# Altium schematic symbol library Schlib.SchLib: 166 symbols (part 1 of 4)
Pins are listed as number, name and electrical type; pins without a type are passive.

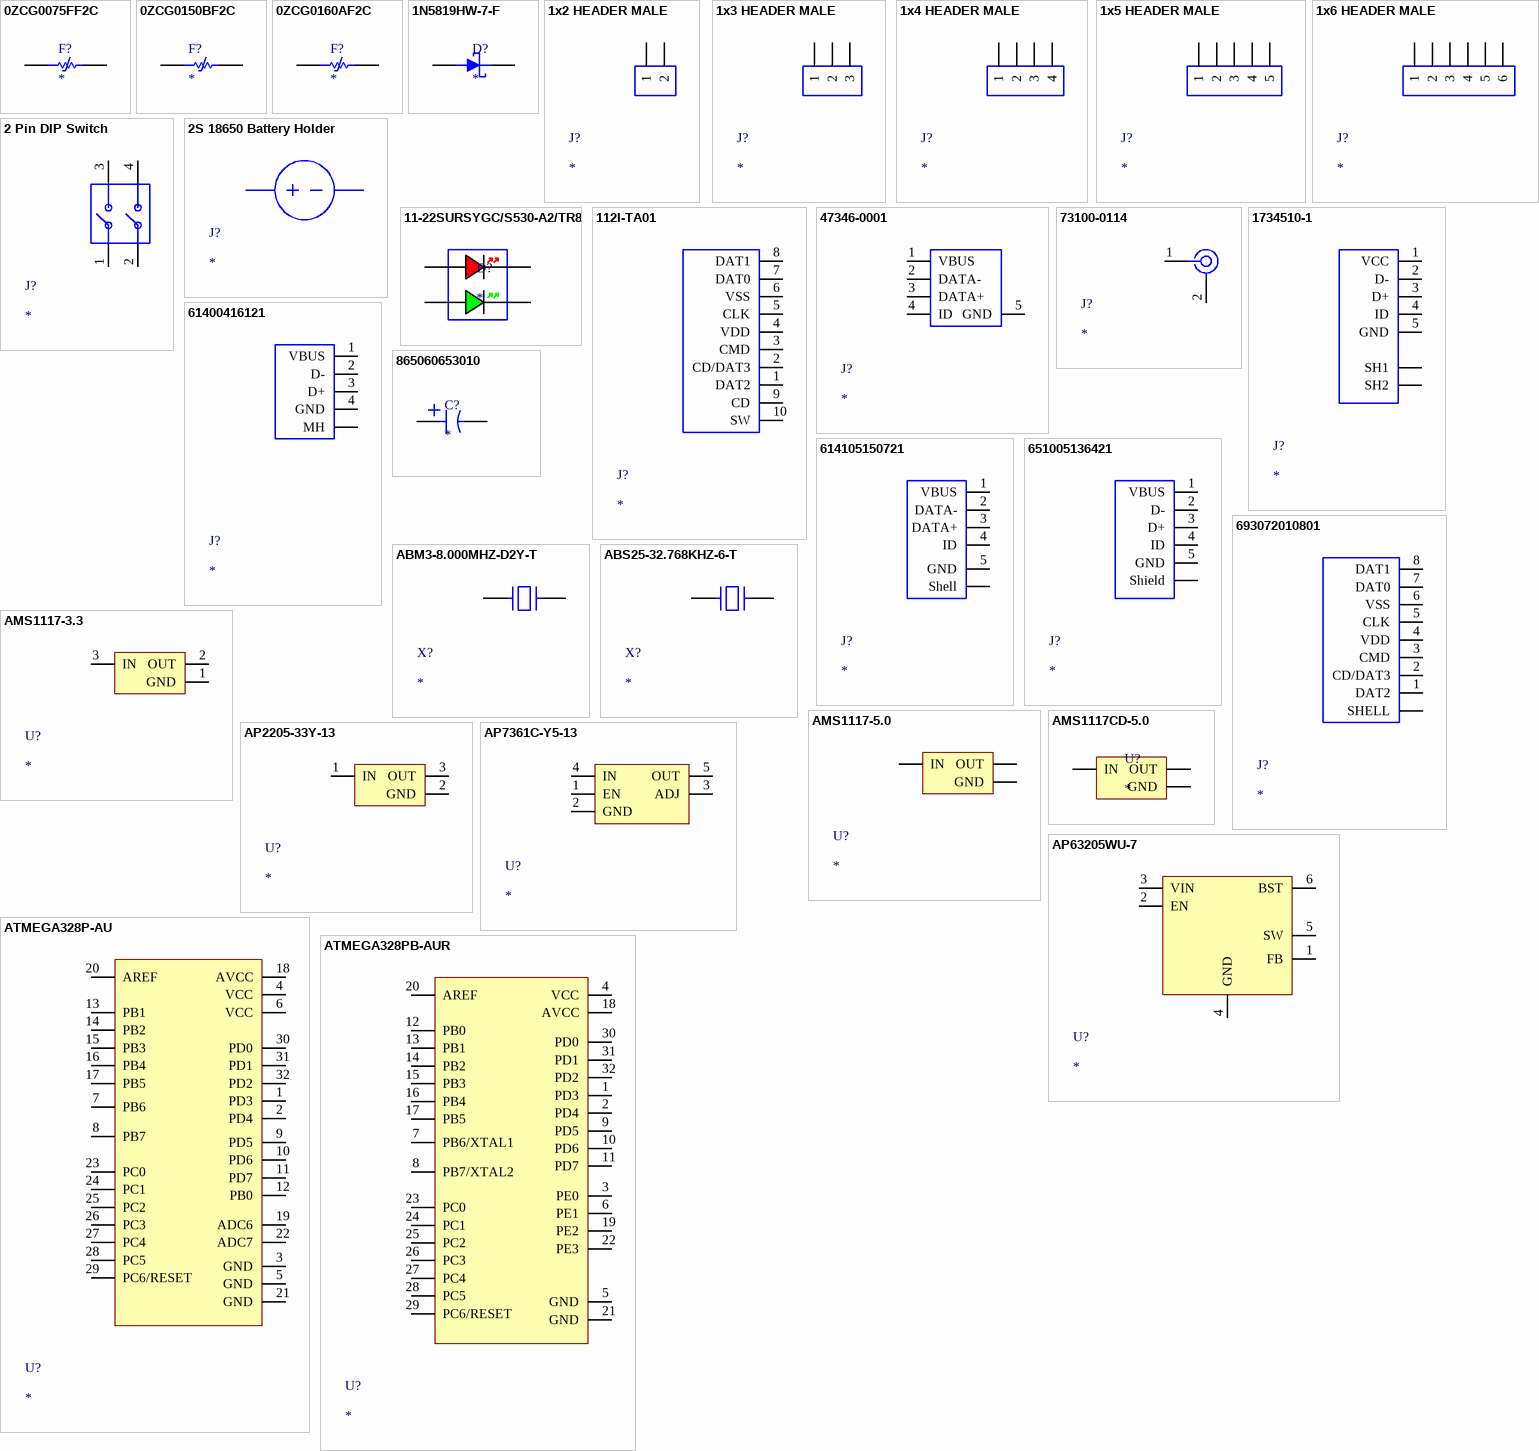
[diagram p0: symbols 0ZCG0075FF2C to ATMEGA328PB-AUR]

## 0ZCG0075FF2C
designator F?
PTC Resettable Fuse 0.75A(hold) 1.5A(trip) 16VDC 100A 0.8W 0.2s 0.11Ohm SMD Solder Pad 1812 4.73 X 3.41 X 0.65mm T/R...; Manufacturer: Bel; Manufacturer Part Number: 0ZCG0075FF2C; Hold Current: 750mA; Time to Trip: 200ms; Supplier 1: Arrow Electronics; RoHS: Yes; Category: PTC Resettable Fuses; Stock 1: 4661; Pricing 1: 2000=0,0751, 4000=0,0699, 6000=0,065, 10000=0,0604 (USD); Mount: Surface Mount; Case/Package: 1812; Case Code (Metric): 4532; Case Code (Imperial): 1812; Contact Plating: Tin,Matte; Min Operating Temperature: -40°C; Max Operating Temperature: 85°C; Packaging: Cut Tape; Max Current Rating: 100A; Trip Current: 1.5A; Series: 0ZCG; Lead Free: Lead Free; RoHS Compliant: Yes; ComponentLink1URL: https://datasheet.ciiva.com/18550/0zcg-18550523.pdf?src-supplier=Digi-Key; ComponentLink1Description: https://datasheet.ciiva.com/18550/0zcg-18550523.pdf?src-supplier=Digi-Key; ComponentLink2URL: https://datasheet.ciiva.com/18550/0zcg-18550524.pdf?src-supplier=Digi-Key; ComponentLink2Description: https://datasheet.ciiva.com/18550/0zcg-18550524.pdf?src-supplier=Digi-Key; ComponentLink3URL: https://datasheet.ciiva.com/18550/0zcg-18550767.pdf?src-supplier=Digi-Key; ComponentLink3Description: https://datasheet.ciiva.com/18550/0zcg-18550767.pdf?src-supplier=Digi-Key
footprint 1812
pins: 1, 2

## 0ZCG0150BF2C
designator F?
PTC RESTTBLE 1.50A 24V CHIP 1812; Manufacturer: Bel; Manufacturer Part Number: 0ZCG0150BF2C; Current Rating: 100A; Supplier 1: Avnet; RoHS: Yes; Category: PTC Resettable Fuses; Stock 1: 20000; Pricing 1: 2000=0,10628, 4000=0,10217, 8000=0,09874, 12000=0,09531, 16000=0,09188, 20000=0,08846, 200000=0,06138 (USD); Voltage Rating: 24V; Height: 1.55mm; ComponentLink1URL: http://www.farnell.com/datasheets/2571640.pdf?src-supplier=Farnell; ComponentLink1Description: http://www.farnell.com/datasheets/2571640.pdf?src-supplier=Farnell; ComponentLink2URL: http://www.farnell.com/datasheets/2571640.pdf?src-supplier=Element14; ComponentLink2Description: http://www.farnell.com/datasheets/2571640.pdf?src-supplier=Element14; ComponentLink3URL: https://www.belfuse.com/resources/CircuitProtection/datasheets/0ZCG%20Nov2016.pdf?src-supplier=Digikey; ComponentLink3Description: https://www.belfuse.com/resources/CircuitProtection/datasheets/0ZCG%20Nov2016.pdf?src-supplier=Digikey; ComponentLink4URL: http://www.farnell.com/datasheets/2571640.pdf?src-supplier=Newark; ComponentLink4Description: http://www.farnell.com/datasheets/2571640.pdf?src-supplier=Newark; ComponentLink5URL: http://www.belfuse.com/pdfs/0ZCG.pdf?src-supplier=Avnet; ComponentLink5Description: http://www.belfuse.com/pdfs/0ZCG.pdf?src-supplier=Avnet; ComponentLink6URL: https://datasheet.octopart.com/0ZCG0150BF2C-Bel-Fuse-datasheet-138895723.pdf?src-supplier=Electro+Sonic; ComponentLink6Description: https://datasheet.octopart.com/0ZCG0150BF2C-Bel-Fuse-datasheet-138895723.pdf?src-supplier=Electro+Sonic
footprint 1812
pins: 1, 2

## 0ZCG0160AF2C
designator F?
Ptc Reset Fuse 12V 1.6A 1812; Manufacturer: Bel; Manufacturer Part Number: 0ZCG0160AF2C; Supplier 1: Mouser; RoHS: Yes; Category: PTC Resettable Fuses; Stock 1: 7947; Pricing 1: 1=0,24, 10=0,201, 50=0,201, 100=0,167, 1000=0,132, 10000=0,096 (USD); ComponentLink1URL: https://datasheet.ciiva.com/18550/0zcg-18550678.pdf?src-supplier=Digikey; ComponentLink1Description: https://datasheet.ciiva.com/18550/0zcg-18550678.pdf?src-supplier=Digikey; ComponentLink2URL: https://datasheet.ciiva.com/18550/0zcg-18550679.pdf?src-supplier=Digikey; ComponentLink2Description: https://datasheet.ciiva.com/18550/0zcg-18550679.pdf?src-supplier=Digikey; ComponentLink3URL: https://datasheet.ciiva.com/18550/0zcg-18550680.pdf?src-supplier=Digikey; ComponentLink3Description: https://datasheet.ciiva.com/18550/0zcg-18550680.pdf?src-supplier=Digikey
footprint 1812
pins: 1, 2

## 1N5819HW-7-F
designator D?
Rectifier Diode, Schottky, 1 Phase, 1 Element, 1A, 40V V(RRM), Silicon; Manufacturer: Diodes; Manufacturer Part Number: 1N5819HW-7-F; Max Reverse Current: 50uA; Peak Non-Repetitive Surge Current: 25A; Forward Voltage: 450mV; Max Power Dissipation: 450mW; Polarity: Standard; Capacitance: 50pF; Supplier 1: Future Electronics; RoHS: Yes; Category: Rectifier Diodes; Stock 1: 5079000; Pricing 1: 3000=0,0409, 9000=0,0394, 15000=0,0388, 60000=0,037, 90000=0,0358 (USD); Case/Package: SOD-123-2; Number of Pins: 2; Weight: 0.000353oz; Min Operating Temperature: -65°C; Max Operating Temperature: 125°C; Forward Current: 1A; Max Repetitive Reverse Voltage (Vrrm): 40V; Package Quantity: 3000; Packaging: Tape and Reel; Average Rectified Current: 1A; Max Forward Surge Current (Ifsm): 25A; Termination: SMD/SMT; Voltage Rating (DC): 40V; Current Rating: 1A; Output Current: 1A; Max Reverse Voltage (DC): 40V; Series: -; Reverse Voltage: 40V; Length: 2.85mm; Width: 1.7mm; Height: 1.25mm; Radiation Hardening: No; Reach SVHC Compliant: No; Lead Free: Lead Free; RoHS Compliant: Yes; ComponentLink1URL: https://datasheet.ciiva.com/27092/1538419-27092484.pdf?src-supplier=Jameco; ComponentLink1Description: https://datasheet.ciiva.com/27092/1538419-27092484.pdf?src-supplier=Jameco; ComponentLink2URL: https://datasheet.ciiva.com/16303/ds30217-16303296.pdf?src-supplier=Future+Electronics; ComponentLink2Description: https://datasheet.ciiva.com/16303/ds30217-16303296.pdf?src-supplier=Future+Electronics; ComponentLink3URL: https://datasheet.ciiva.com/1177/ds30217-1177089.pdf?src-supplier=Element14; ComponentLink3Description: https://datasheet.ciiva.com/1177/ds30217-1177089.pdf?src-supplier=Element14; ComponentLink4URL: https://datasheet.ciiva.com/8303/ds30217-8303132.pdf?src-supplier=Avnet; ComponentLink4Description: https://datasheet.ciiva.com/8303/ds30217-8303132.pdf?src-supplier=Avnet; ComponentLink5URL: https://datasheet.ciiva.com/912/ds30217-912802.pdf?src-supplier=Digikey; ComponentLink5Description: https://datasheet.ciiva.com/912/ds30217-912802.pdf?src-supplier=Digikey; ComponentLink6URL: https://datasheet.ciiva.com/912/ds30217-912803.pdf?src-supplier=Digikey; ComponentLink6Description: https://datasheet.ciiva.com/912/ds30217-912803.pdf?src-supplier=Digikey; ComponentLink7URL: https://datasheet.ciiva.com/912/ds30217-912801.pdf?src-supplier=Digikey; ComponentLink7Description: https://datasheet.ciiva.com/912/ds30217-912801.pdf?src-supplier=Digikey
footprint 1N5819HW-7-F
pins: A, C

## 1x2 HEADER MALE
designator J?
footprint 1x2 HEADER MALE
pins: 1, 2

## 1x3 HEADER MALE
designator J?
footprint 1X3 HEADER MALE
pins: 1, 2, 3

## 1x4 HEADER MALE
designator J?
footprint 1X4 HEADER MALE
pins: 1, 2, 3, 4

## 1x5 HEADER MALE
designator J?
footprint 1X5 HEADER MALE
pins: 1, 2, 3, 4, 5

## 1x6 HEADER MALE
designator J?
footprint 1X6 HEADER MALE
pins: 1, 2, 3, 4, 5, 6

## 2 Pin DIP Switch
designator J?
footprint 2 PIN DIP SWITCH
pins: 1, 2, 3, 4

## 2S 18650 Battery Holder
designator J?
footprint 2S 18650 Battery Pack

## 11-22SURSYGC/S530-A2/TR8
designator D?
Dual Color LED, Brilliant Red/brilliant Yellow Green, Water Clear, 1.5mm; Manufacturer: Everlight; Manufacturer Part Number: 11-22SURSYGC/S530-A2/TR8; Color: Green,Red,Yellow; Shape: Round; Forward Current: 25mA; Channels: 1; Viewing Angle: 60°; Supplier: Future Electronics; Supplier Part Number: 4067489; RoHS: Yes; Category: LEDs; Pricing: 2000=0,0652, 4000=0,0641, 8000=0,063, 10000=0,0627, 30000=0,0606 (USD); Mounting Technology: Surface Mount; Pins: 4; Min Operating Temperature: -40°C; Max Operating Temperature: 85°C; Lens Style: WATER CLEAR; Optoelectronic Device Type: DUAL COLOR LED; Packaging: Tape and Reel; Terminal Pitch: 2.7mm; Overall Height: 1.5mm; Size: 1.5mm; Reach SVHC Compliant: Yes; RoHS Compliant: Yes; ComponentLink1URL: https://datasheet.ciiva.com:443/pdfs/VipMasterIC/IC/EVER/EVER-S-A0007426054/EVER-S-A0007423494-1.pdf?src-supplier=IHS+Markit; ComponentLink1Description: https://datasheet.ciiva.com:443/pdfs/VipMasterIC/IC/EVER/EVER-S-A0007426054/EVER-S-A0007423494-1.pdf?src-supplier=IHS+Markit; ComponentLink2URL: https://datasheet.ciiva.com/4268/11-22sursygc-s530-a2-tr8-4268850.pdf?src-supplier=Arrow+Electronics; ComponentLink2Description: https://datasheet.ciiva.com/4268/11-22sursygc-s530-a2-tr8-4268850.pdf?src-supplier=Arrow+Electronics; ComponentLink3URL: https://datasheet.ciiva.com/12401/1122sursygcs530a2tr8-188371-12401700.pdf?src-supplier=Mouser; ComponentLink3Description: https://datasheet.ciiva.com/12401/1122sursygcs530a2tr8-188371-12401700.pdf?src-supplier=Mouser
footprint 11-22SURSYGC/S530-A2/TR8
pins: 1 YGK, 2 RedK, 3 RedA, 4 YGA

## 112I-TA01
designator J?
Micro SD Card Push-Pull 10P (8+2), Switch, Peg, SMD 112I-TA01
footprint 112I-TA01
pins: 1 DAT2, 2 CD/DAT3, 3 CMD, 4 VDD, 5 CLK, 6 VSS, 7 DAT0, 8 DAT1, 9 CD, 10 SW

## 47346-0001
designator J?
Micro-USB B Receptacle with Flange, Bottom Mount, Surface Mount, Lead-Free; Manufacturer: Molex; Manufacturer Part Number: 47346-0001; Max Voltage Rating (AC): 30V; Number of Ports: 1; Contact Resistance: 40mR; Current Rating: 1.8A; Gender: Female; Connector Type: USB,Receptacle; Number of Contacts: 5; Contact Current Rating: 1A; USB Standard: USB 2.0; Pitch: 0.65mm; Glow Wire Compliant: Non-compliant; Supplier 1: Sager Electronics; RoHS: Yes; Category: Headers and Wire Housings; Stock 1: 14156; Pricing 1: 14000=0,5225 (USD); Mount: Surface Mount; Contact Plating: Gold; Contact Material: Copper Alloy,Copper; Housing Material: Polymer; Color: Black; Min Operating Temperature: -20°C; Max Operating Temperature: 85°C; Packaging: Tape and Reel; Termination: SMD/SMT; Orientation: Right Angle; Voltage Rating (AC): 30V; Voltage Rating: 30V; Number of Circuits: 5; Number of Positions: 5; Number of Rows: 1; Series: 47346; RoHS Compliant: Yes; Halogen Free: Low Halogen; Lead Free: Lead Free; Flammability Rating: UL94 V-0; Reach SVHC Compliant: Unknown; ComponentLink1URL: https://datasheet.ciiva.com/30075/304740473460001-io-nectors-30075527.pdf?src-supplier=Onlinecomponents.com; ComponentLink1Description: https://datasheet.ciiva.com/30075/304740473460001-io-nectors-30075527.pdf?src-supplier=Onlinecomponents.com; ComponentLink2URL: https://datasheet.ciiva.com/22654/1630785-22654942.pdf?src-supplier=Element14; ComponentLink2Description: https://datasheet.ciiva.com/22654/1630785-22654942.pdf?src-supplier=Element14; ComponentLink3URL: https://datasheet.ciiva.com/16148/1700180473460001-io-nectors-16148917.pdf?src-supplier=Onlinecomponents.com; ComponentLink3Description: https://datasheet.ciiva.com/16148/1700180473460001-io-nectors-16148917.pdf?src-supplier=Onlinecomponents.com; ComponentLink4URL: https://datasheet.ciiva.com/16986/70266948-16986683.pdf?src-supplier=Allied+Electronics; ComponentLink4Description: https://datasheet.ciiva.com/16986/70266948-16986683.pdf?src-supplier=Allied+Electronics; ComponentLink5URL: https://datasheet.ciiva.com/28504/0473460001-io-connectors-28504587.pdf?src-supplier=Element14; ComponentLink5Description: https://datasheet.ciiva.com/28504/0473460001-io-connectors-28504587.pdf?src-supplier=Element14; ComponentLink6URL: https://datasheet.ciiva.com/46390/1681853-46390956.pdf?src-supplier=Element14; ComponentLink6Description: https://datasheet.ciiva.com/46390/1681853-46390956.pdf?src-supplier=Element14
footprint MOLEX_47346-0001
pins: 1 VBUS, 2 DATA-, 3 DATA+, 4 ID, 5 GND

## 73100-0114
designator J?
RF SMA Connector, 1 Contact(s), Female, Board Mount, Solder Terminal, Locking, Jack
footprint 731000114
pins: 1, 2

## 1734510-1
designator J?
USB Connector, 5 Contact(s), Female, Right Angle, Solder Terminal, Locking, Receptacle; Manufacturer: TE Connectivity AMP; Manufacturer Part Number: 1734510-1; Gender: 30Gender; RMS Current (Irms): 1A; Supplier 1: Avnet; RoHS: Yes; Category: Audio / Video Connectors; Stock 1: 14; Pricing 1: 1=1,75, 10=1,61, 25=1,98, 50=1,93, 100=1,88 (USD); Lead Free: 5697LeadFree; ComponentLink1URL: https://www.te.com/commerce/DocumentDelivery/DDEController?Action=srchrtrv&DocNm=1734510&DocType=Customer+Drawing&DocLang=English&src-supplier=Digikey; ComponentLink1Description: https://www.te.com/commerce/DocumentDelivery/DDEController?Action=srchrtrv&DocNm=1734510&DocType=Customer+Drawing&DocLang=English&src-supplier=Digikey; ComponentLink2URL: https://datasheet.octopart.com/1734510-1-TE-Connectivity---AMP-datasheet-77862044.pdf?src-supplier=Sager+Electronics; ComponentLink2Description: https://datasheet.octopart.com/1734510-1-TE-Connectivity---AMP-datasheet-77862044.pdf?src-supplier=Sager+Electronics
footprint 1734510-1
pins: 1 VCC, 2 D-, 3 D+, 4 ID, 5 GND, SH1, SH2

## 61400416121
designator J?
USB Connector, 4 Contact(s), Female, Right Angle, Solder Terminal, Locking, Receptacle; Manufacturer: Wurth Electronics; Manufacturer Part Number: 61400416121; Connector Type: TELECOM AND DATACOM CONNECTOR; Option: General Purpose; Contact Resistance: 20mR; Durability: 1500Cycles; Empty Shell: No; Number Of Connectors: 1; Number Of PCB Rows: 2; PCB Contact Pattern: RECTANGULAR; Polarization Key: POLARIZED HOUSING; Number of Contacts: 4; Additional Feature: ROHS COMPLIANT; Board Mounting Option: SOLDERABLE RETENTION CLIPS; Dielectric Withstanding Voltage (AC): 750V; Insulation Resistance: 1GR; Rated Current (Signal): 1.5A; Body Depth: 0.65inch; Body Length: 0.472inch; Body Breadth: 0.421inch; PCB Contact Row Spacing: 2.0066mm; Reference Standard: UL; Reliability: COMMERCIAL; Supplier: Mouser; Supplier Part Number: 710-61400416121; RoHS: Yes; Category: USB Connectors; Stock: 3231; Pricing: 1=1,41, 10=1,24, 50=1,17, 100=1,05, 1000=1,01, 10000=1,01 (USD); Mounting Technology: Board; Contact Finish - Mating: GOLD; Contact Finish - Termination: Gold (Au); Insulation Material: Polybutylene; Shell Finish: Nickel; Shell Material: Bronze; Contact Material: Copper Alloy; Min Operating Temperature: -40°C; Max Operating Temperature: 105°C; JESD-609 Code: e4; Body/Shell Style: RECEPTACLE; Contact Gender: Female; Contact Style: USB; Filter Feature: No; Mixed Contacts: No; Mounting Style: RIGHT ANGLE; Termination: Solder; Mating Information: NO; Mounting Option 1: LOCKING; Terminal Pitch: 2.4892mm; Terminal Length: 0.126inch; Flammability Rating: UL94 V-0; DIN Conformance: No; IEC Conformance: No; MIL Conformance: No; Reach SVHC Compliant: Yes; RoHS Compliant: Yes; ComponentLink1URL: https://datasheet.ciiva.com:443/pdfs/VipMasterIC/IC/MIDC/MIDC-S-A0004022663/MIDC-S-A0006489655-1.pdf?src-supplier=IHS+Markit; ComponentLink1Description: https://datasheet.ciiva.com:443/pdfs/VipMasterIC/IC/MIDC/MIDC-S-A0004022663/MIDC-S-A0006489655-1.pdf?src-supplier=IHS+Markit; ComponentLink2URL: https://datasheet.ciiva.com/1098/1697135-1098929.pdf?src-supplier=Element14; ComponentLink2Description: https://datasheet.ciiva.com/1098/1697135-1098929.pdf?src-supplier=Element14; ComponentLink3URL: https://datasheet.ciiva.com/1100/76589-1100560.pdf?src-supplier=Newark; ComponentLink3Description: https://datasheet.ciiva.com/1100/76589-1100560.pdf?src-supplier=Newark; ComponentLink4URL: https://datasheet.ciiva.com/4598/61400416121-69623-4598782.pdf?src-supplier=Mouser; ComponentLink4Description: https://datasheet.ciiva.com/4598/61400416121-69623-4598782.pdf?src-supplier=Mouser; ComponentLink5URL: https://datasheet.ciiva.com/851/61400416121-851771.pdf?src-supplier=Digikey; ComponentLink5Description: https://datasheet.ciiva.com/851/61400416121-851771.pdf?src-supplier=Digikey; ComponentLink6URL: https://datasheet.ciiva.com/11731/0900766b81023ab5-11731301.pdf?src-supplier=Rs; ComponentLink6Description: https://datasheet.ciiva.com/11731/0900766b81023ab5-11731301.pdf?src-supplier=Rs; ComponentLink7URL: https://datasheet.ciiva.com/14118/4257098-eng-datasheet-14118442.pdf?src-supplier=Distrelec; ComponentLink7Description: https://datasheet.ciiva.com/14118/4257098-eng-datasheet-14118442.pdf?src-supplier=Distrelec; ComponentLink8URL: https://datasheet.ciiva.com/48712/001088208-da-01-en-wr-com-usb-type-b-61400416121-48712662.pdf?src-supplier=Conrad; ComponentLink8Description: https://datasheet.ciiva.com/48712/001088208-da-01-en-wr-com-usb-type-b-61400416121-48712662.pdf?src-supplier=Conrad
footprint 61400416121
pins: 1 VBUS, 2 D-, 3 D+, 4 GND, Shell MH

## 614105150721
designator J?
USB Connector, 5 Contact(s), Female, Straight, Solder Terminal, Receptacle; Manufacturer: Wurth Electronics; Manufacturer Part Number: 614105150721; Connector Type: TELECOM AND DATACOM CONNECTOR; Option: General Purpose; Additional Feature: Shielded; Empty Shell: No; Number of Contacts: 5; Supplier: Mouser; Supplier Part Number: 710-614105150721; RoHS: Yes; Category: USB Connectors; Stock: 5224; Pricing: 1=2,1, 10=1,93, 50=1,79, 100=1,65, 1000=1,43, 10000=1,43 (USD); Mounting Technology: Board; Contact Material: Copper Alloy; Contact Finish - Mating: GOLD; Contact Finish - Termination: Gold (Au); Insulation Material: Polymer; Shell Finish: Tin; Shell Material: Stainless Steel; JESD-609 Code: e4; Contact Gender: Female; Filter Feature: No; Mixed Contacts: No; Mounting Style: STRAIGHT; Termination: Solder; Flammability Rating: UL94 V-0; DIN Conformance: No; IEC Conformance: No; MIL Conformance: No; Reach SVHC Compliant: Yes; RoHS Compliant: Yes; ComponentLink1URL: https://datasheet.ciiva.com:443/pdfs/VipMasterIC/IC/MIDC/MIDC-S-A0002489243/MIDC-S-A0002489243-1.pdf?src-supplier=IHS+Markit; ComponentLink1Description: https://datasheet.ciiva.com:443/pdfs/VipMasterIC/IC/MIDC/MIDC-S-A0002489243/MIDC-S-A0002489243-1.pdf?src-supplier=IHS+Markit; ComponentLink2URL: https://www.distrelec.biz/Web/Downloads/40/30/614105150721.pdf?mime=application%2Fpdf&src-supplier=Distrelec; ComponentLink2Description: https://www.distrelec.biz/Web/Downloads/40/30/614105150721.pdf?mime=application%2Fpdf&src-supplier=Distrelec; ComponentLink3URL: http://www.farnell.com/cad/2130953.pdf?src-supplier=Element14; ComponentLink3Description: http://www.farnell.com/cad/2130953.pdf?src-supplier=Element14; ComponentLink4URL: https://katalog.we-online.de/em/datasheet/614105150721.pdf?src-supplier=Digikey; ComponentLink4Description: https://katalog.we-online.de/em/datasheet/614105150721.pdf?src-supplier=Digikey
footprint 614105150721
pins: 1 VBUS, 2 DATA-, 3 DATA+, 4 ID, 5 GND, Shell

## 651005136421
designator J?
USB Connector, 5 Contact(s), Female, Straight, Solder Terminal, Locking, Receptacle
footprint 651005136421
pins: 1 VBUS, 2 D-, 3 D+, 4 ID, 5 GND, Shell Shield

## 693072010801
designator J?
PCB Connector, 8 Contact(s), 1 Row(s), Male, Right Angle, 0.043 inch Pitch, Surface Mount Terminal, Black Insulator, Receptacle; Manufacturer: Wurth Electronics; Manufacturer Part Number: 693072010801; Board Mounting Option: SOLDER HOLDING POSTS; Contact Pattern: RECTANGULAR; Contact Resistance: 100mR; Dielectric Withstanding Voltage (AC): 500V; Durability: 10000Cycles; Insulation Resistance: 1GR; Number Of Connectors: 1; Rated Current (Signal): 500mA; Number of Contacts: 8; Body Breadth: 0.069inch; Body Depth: 0.539inch; Body Length: 0.535inch; Reference Standard: UL; Reliability: COMMERCIAL; Supplier: Mouser; Supplier Part Number: 710-693072010801; RoHS: Yes; Category: Memory Connectors; Stock: 2877; Pricing: 1=3,48, 10=3,41, 50=3, 100=2,87, 1000=2,46, 10000=2,26 (USD); Mounting Technology: Board; Contact Finish - Mating: NOT SPECIFIED; Insulation Color: Black; Insulation Material: Polymer; Min Operating Temperature: -25°C; Max Operating Temperature: 85°C; Connector Type: PCB; Body/Shell Style: RECEPTACLE; Contact Gender: Male; Mounting Style: RIGHT ANGLE; Number Of PCB Rows: 1; Number of Ports: 1; Number of Rows Loaded: 1; PCB Contact Pattern: RECTANGULAR; Termination: SMD/SMT; Mating Contact Pitch: 0.043inch; Terminal Pitch: 1.0922mm; Reach SVHC Compliant: Yes; RoHS Compliant: Yes; ComponentLink1URL: https://datasheet.ciiva.com:443/pdfs/VipMasterIC/IC/MIDC/MIDC-S-A0000106158/MIDC-S-A0000106158-1.pdf?src-supplier=IHS+Markit; ComponentLink1Description: https://datasheet.ciiva.com:443/pdfs/VipMasterIC/IC/MIDC/MIDC-S-A0000106158/MIDC-S-A0000106158-1.pdf?src-supplier=IHS+Markit; ComponentLink2URL: https://datasheet.ciiva.com/1107/693072010801-1107219.pdf?src-supplier=Newark; ComponentLink2Description: https://datasheet.ciiva.com/1107/693072010801-1107219.pdf?src-supplier=Newark; ComponentLink3URL: https://datasheet.ciiva.com/25605/0900766b81113f29-25605360.pdf?src-supplier=Rs; ComponentLink3Description: https://datasheet.ciiva.com/25605/0900766b81113f29-25605360.pdf?src-supplier=Rs; ComponentLink4URL: https://datasheet.ciiva.com/1104/693072010801-1104797.pdf?src-supplier=Element14; ComponentLink4Description: https://datasheet.ciiva.com/1104/693072010801-1104797.pdf?src-supplier=Element14; ComponentLink5URL: https://datasheet.ciiva.com/6935/693072010801-6935071.pdf?src-supplier=Digikey; ComponentLink5Description: https://datasheet.ciiva.com/6935/693072010801-6935071.pdf?src-supplier=Digikey; ComponentLink6URL: https://datasheet.ciiva.com/6935/693072010801-6935068.pdf?src-supplier=Digikey; ComponentLink6Description: https://datasheet.ciiva.com/6935/693072010801-6935068.pdf?src-supplier=Digikey
footprint 693072010801
pins: 1 DAT2, 2 CD/DAT3, 3 CMD, 4 VDD, 5 CLK, 6 VSS, 7 DAT0, 8 DAT1, SHELL

## 865060653010
designator C?
Aluminum Electrolytic Capacitor, Polarized, Aluminum (wet), 50V, 20% +Tol, 20% -Tol, 100uF, Surface Mount, 3333; Manufacturer: Wurth Electronics; Manufacturer Part Number: 865060653010; Supplier 1: Farnell; RoHS: Yes; Category: Aluminum Electrolytic Capacitors; Stock 1: 176; Pricing 1: 1=0,825, 10=0,63, 50=0,551, 100=0,481, 200=0,427, 500=0,355, 2500=0,348, 5000=0,341 (EUR); ComponentLink1URL: http://www.farnell.com/datasheets/1880078.pdf?src-supplier=Farnell; ComponentLink1Description: http://www.farnell.com/datasheets/1880078.pdf?src-supplier=Farnell; ComponentLink2URL: http://www.farnell.com/datasheets/1880078.pdf?src-supplier=Newark; ComponentLink2Description: http://www.farnell.com/datasheets/1880078.pdf?src-supplier=Newark; ComponentLink3URL: http://www.farnell.com/datasheets/1880078.pdf?src-supplier=Element14; ComponentLink3Description: http://www.farnell.com/datasheets/1880078.pdf?src-supplier=Element14; ComponentLink4URL: https://katalog.we-online.de/pbs/datasheet/865060653010.pdf?src-supplier=Digikey; ComponentLink4Description: https://katalog.we-online.de/pbs/datasheet/865060653010.pdf?src-supplier=Digikey
footprint 865060653010
pins: 1 P, 2 N

## ABM3-8.000MHZ-D2Y-T
designator X?
Crystal 8MHz ±20ppm (Tol) ±30ppm (Stability) 18pF FUND 140Ohm 2-Pin Mini-CSMD T/R; Manufacturer: Abracon; Manufacturer Part Number: ABM3-8.000MHZ-D2Y-T; Supplier 1: Future Electronics; RoHS: Yes; Category: Crystals; Stock 1: 237000; Pricing 1: 1000=0,325, 2000=0,275, 3000=0,315, 4000=0,27, 5000=0,31, 10000=0,305, 20000=0,295 (USD); Reach SVHC Compliant: 4187SVHC; ComponentLink1URL: https://datasheet.ciiva.com/862/abm3-862465.pdf?src-supplier=Digikey; ComponentLink1Description: https://datasheet.ciiva.com/862/abm3-862465.pdf?src-supplier=Digikey
footprint ABM3-8.000MHZ-D2Y-T
pins: 1, 2

## ABS25-32.768KHZ-6-T
designator X?
Crystal, Plastic Molded 32.768Khz, 6Pf, 20Ppm-40+85C, 8 X 3.8 X 2.5 Rohs Compliant: Yes; Manufacturer: Abracon; Manufacturer Part Number: ABS25-32.768KHZ-6-T; Supplier 1: Future Electronics; RoHS: Yes; Category: Crystals; Stock 1: 399000; Pricing 1: 3000=0,375, 6000=0,365, 9000=0,365, 12000=0,36, 15000=0,35 (USD); ComponentLink1URL: https://datasheet.ciiva.com/854/abs25-854528.pdf?src-supplier=Digi-Key; ComponentLink1Description: https://datasheet.ciiva.com/854/abs25-854528.pdf?src-supplier=Digi-Key; ComponentLink2URL: https://datasheet.ciiva.com/26909/getdatasheetpartid-722397-26909970.pdf?src-supplier=Verical; ComponentLink2Description: https://datasheet.ciiva.com/26909/getdatasheetpartid-722397-26909970.pdf?src-supplier=Verical; ComponentLink3URL: https://datasheet.ciiva.com/854/abs25-854527.pdf?src-supplier=Digi-Key; ComponentLink3Description: https://datasheet.ciiva.com/854/abs25-854527.pdf?src-supplier=Digi-Key; ComponentLink4URL: https://datasheet.ciiva.com/854/abs25-854529.pdf?src-supplier=Digi-Key; ComponentLink4Description: https://datasheet.ciiva.com/854/abs25-854529.pdf?src-supplier=Digi-Key; ComponentLink5URL: https://datasheet.ciiva.com/5788/abs25-5788102.pdf?src-supplier=Farnell; ComponentLink5Description: https://datasheet.ciiva.com/5788/abs25-5788102.pdf?src-supplier=Farnell; ComponentLink6URL: https://datasheet.ciiva.com/1357/1856019-1357324.pdf?src-supplier=Element14; ComponentLink6Description: https://datasheet.ciiva.com/1357/1856019-1357324.pdf?src-supplier=Element14; ComponentLink7URL: https://datasheet.ciiva.com/7998/1856019-7998662.pdf?src-supplier=Element14; ComponentLink7Description: https://datasheet.ciiva.com/7998/1856019-7998662.pdf?src-supplier=Element14
footprint ABS25-32.768KHZ-6-T
pins: 1, 4

## AMS1117-3.3
designator U?
Linear Voltage Regulator IC Positive Fixed 1 Output 1A
footprint SOT-223
pins: 1 GND, 2 OUT, 3 IN

## AMS1117-5.0
designator U?
Linear Voltage Regulator IC Positive Fixed 1 Output 1A
footprint SOT-223
pins: 1 GND, 2 OUT, 3 IN

## AMS1117CD-5.0
designator U?
Linear Voltage Regulator IC Positive Fixed 1 Output 1A TO-252 (DPAK)
footprint AMS1117CD
pins: 1 GND, 2 OUT, 3 IN

## AP2205-33Y-13
designator U?
Ldo, Fixed, 3.3V, 0.2A, Sot-89-3 Rohs Compliant: Yes |Diodes Inc. AP2205-33Y-13; Manufacturer: Diodes; Output Configuration: Positive; Number of Regulators: 1; Max Input Voltage: 24V; Output Current: 250mA; Power Supply Rejection Ratio (PSRR): 60dB; Supplier 1: Digi-Key; Manufacturer Part Number: AP2205-33Y-13; RoHS: Yes; Stock 1: 104598; Pricing 1: 1=0,46, 10=0,372, 25=0,34, 100=0,2531, 250=0,22936, 500=0,1898, 1000=0,14235 (USD); Mount: Surface Mount; Case/Package: TO-243AA; Min Operating Temperature: -40°C; Max Operating Temperature: 125°C; Output Type: Fixed; Series: -; Packaging: Cut Tape; Min Output Voltage: 3.3V; ComponentLink1URL: https://datasheet.octopart.com/AP2205-33Y-13-Diodes-Inc.-datasheet-149521333.pdf?src-supplier=Farnell; ComponentLink1Description: https://datasheet.octopart.com/AP2205-33Y-13-Diodes-Inc.-datasheet-149521333.pdf?src-supplier=Farnell; ComponentLink2URL: https://www.diodes.com/assets/Datasheets/AP2205.pdf?src-supplier=Digi-Key; ComponentLink2Description: https://www.diodes.com/assets/Datasheets/AP2205.pdf?src-supplier=Digi-Key; ComponentLink3URL: https://datasheet.octopart.com/AP2205-33Y-13-Diodes-Inc.-datasheet-145012309.pdf?src-supplier=SHENGYU+ELECTRONICS; ComponentLink3Description: https://datasheet.octopart.com/AP2205-33Y-13-Diodes-Inc.-datasheet-145012309.pdf?src-supplier=SHENGYU+ELECTRONICS; Supplier Part Number 1: AP2205-33Y-13DICT-ND
footprint AP2205-33Y-13
pins: 1 IN, 2 GND, 3 OUT

## AP7361C-Y5-13
designator U?
Adjustable Positive LDO Regulator; Manufacturer: Diodes; Manufacturer Part Number: AP7361C-Y5-13; Regulator Type: ADJUSTABLE POSITIVE SINGLE OUTPUT LDO REGULATOR; Supplier: Future Electronics; Supplier Part Number: 2163340; RoHS: Yes; Category: Voltage Regulators - Linear; Stock: 17500; Pricing: 2500=0,15, 7500=0,147, 10000=0,146, 25000=0,144, 37500=0,142 (USD); Terminal Finish: Tin; JESD-609 Code: e3; Reach SVHC Compliant: Yes; RoHS Compliant: Yes; ComponentLink1URL: https://datasheet.ciiva.com:443/pdfs/VipMasterIC/IC/DIOD/DIOD-S-A0004145196/DIOD-S-A0004145196-1.pdf?src-supplier=IHS+Markit; ComponentLink1Description: https://datasheet.ciiva.com:443/pdfs/VipMasterIC/IC/DIOD/DIOD-S-A0004145196/DIOD-S-A0004145196-1.pdf?src-supplier=IHS+Markit; ComponentLink2URL: http://www.mouser.com/ds/2/115/AP7361C-775034.pdf?src-supplier=Mouser; ComponentLink2Description: http://www.mouser.com/ds/2/115/AP7361C-775034.pdf?src-supplier=Mouser; ComponentLink3URL: https://datasheet.octopart.com/AP7361C-Y5-13-Diodes-Inc.-datasheet-101745716.pdf?src-supplier=Future+Electronics; ComponentLink3Description: https://datasheet.octopart.com/AP7361C-Y5-13-Diodes-Inc.-datasheet-101745716.pdf?src-supplier=Future+Electronics; ComponentLink4URL: https://datasheet.octopart.com/AP7361C-Y5-13-Diodes-Inc.-datasheet-159616639.pdf?src-supplier=Farnell; ComponentLink4Description: https://datasheet.octopart.com/AP7361C-Y5-13-Diodes-Inc.-datasheet-159616639.pdf?src-supplier=Farnell; ComponentLink5URL: https://www.diodes.com/assets/Datasheets/AP7361C.pdf?src-supplier=Digikey; ComponentLink5Description: https://www.diodes.com/assets/Datasheets/AP7361C.pdf?src-supplier=Digikey; ComponentLink6URL: https://datasheet.octopart.com/AP7361C-Y5-13-Diodes-Inc.-datasheet-158996477.pdf?src-supplier=SHENGYU+ELECTRONICS; ComponentLink6Description: https://datasheet.octopart.com/AP7361C-Y5-13-Diodes-Inc.-datasheet-158996477.pdf?src-supplier=SHENGYU+ELECTRONICS
footprint SOT-89-5
pins: 1 EN, 2 GND, 3 ADJ, 4 IN, 5 OUT

## AP63205WU-7
designator U?
AP63205 Series 32 V 2 A 1.1 MHz Synchronous Buck Converter -TSOT-26; Manufacturer: Diodes; Manufacturer Part Number: AP63205WU-7; Max Duty Cycle: 100%; Max Supply Voltage: 32V; Min Supply Voltage: 3.8V; Nominal Supply Current: 22uA; Number of Outputs: 1NUMBER; Output Current: 2A; Output Voltage: 5V; Switching Frequency: 1.1MHz; Supplier 1: Future Electronics; RoHS: Yes; Category: Voltage Regulators - Switching; Stock 1: 45000; Pricing 1: 3000=0,33, 6000=0,32 (USD); Min Operating Temperature: -40°C; Max Operating Temperature: 85°C; Height: 1mm; ComponentLink1URL: https://www.diodes.com/assets/Datasheets/AP63200-AP63201-AP63203-AP63205.pdf?src-supplier=Digikey; ComponentLink1Description: https://www.diodes.com/assets/Datasheets/AP63200-AP63201-AP63203-AP63205.pdf?src-supplier=Digikey
footprint TSOT26
pins: 1 FB, 2 EN, 3 VIN, 4 GND, 5 SW, 6 BST

## ATMEGA328P-AU
designator U?
8-bit AVR MCU, 32 KB, 2048 Bytes, 20 MHz, 1.8 to 5.5V, TQFP-32, RoHS; Manufacturer: Microchip; Manufacturer Part Number: ATMEGA328P-AU; Interface: I2C,SPI,USART; Number of I/Os: 23; Oscillator Type: Internal; Memory Type: FLASH; Memory Size: 32KB; Peripherals: Brown-out Detect/Reset,POR,PWM,WDT; Frequency: 20MHz; RAM Size: 2KB; Min Supply Voltage: 1.8V; Number of Timers/Counters: 3; Number of ADC Channels: 8; Number of PWM Channels: 6; Data Bus Width: 8b; Number of SPI Channels: 1; Watchdog Timer: Yes; Supplier 1: Farnell; RoHS: Yes; Stock 1: 196910; Pricing 1: 1=3,05, 25=2,48, 100=2,42, 250=2,37 (EUR); Mount: Surface Mount; Case/Package: A; Number of Pins: 32; Weight: 0.002469oz; Min Operating Temperature: -40°C; Max Operating Temperature: 85°C; Packaging: Tray; Core Architecture: AVR; Series: ATmega328P; Package Quantity: 250; Max Supply Voltage: 5.5V; Number of Programmable I/O: 23; Max Frequency: 20MHz; Number of I2C Channels: 1; Length: 7mm; Width: 7mm; Height: 1mm; Radiation Hardening: No; RoHS Compliant: Yes; Reach SVHC Compliant: Yes; Lead Free: Lead Free; ComponentLink1URL: https://datasheet.ciiva.com/1166/doc8161-1166860.pdf?src-supplier=Newark; ComponentLink1Description: https://datasheet.ciiva.com/1166/doc8161-1166860.pdf?src-supplier=Newark; ComponentLink2URL: https://datasheet.ciiva.com/29119/155196-da-01-en-microcontr-atmega328p-au-8bit-tqfp-32-29119594.pdf?src-supplier=Conrad; ComponentLink2Description: https://datasheet.ciiva.com/29119/155196-da-01-en-microcontr-atmega328p-au-8bit-tqfp-32-29119594.pdf?src-supplier=Conrad; ComponentLink3URL: https://datasheet.ciiva.com/1157/1693866-1157693.pdf?src-supplier=Element14; ComponentLink3Description: https://datasheet.ciiva.com/1157/1693866-1157693.pdf?src-supplier=Element14; ComponentLink4URL: https://datasheet.ciiva.com/15213/getdatasheetpartid-365828-15213131.pdf?src-supplier=Verical; ComponentLink4Description: https://datasheet.ciiva.com/15213/getdatasheetpartid-365828-15213131.pdf?src-supplier=Verical
footprint ATMEGA328P-AU
pins: 1 PD3, 2 PD4, 3 GND, 4 VCC, 5 GND, 6 VCC, 7 PB6, 8 PB7, 9 PD5, 10 PD6, 11 PD7, 12 PB0, 13 PB1, 14 PB2, 15 PB3, 16 PB4, 17 PB5, 18 AVCC, 19 ADC6, 20 AREF, 21 GND, 22 ADC7, 23 PC0, 24 PC1, 25 PC2, 26 PC3, 27 PC4, 28 PC5, 29 PC6/RESET, 30 PD0, 31 PD1, 32 PD2

## ATMEGA328PB-AUR
designator U?
AVR 32KBYTES Flash, 1KBYTES EEPROM, 2KBYTES Ram, W - 20MHZ, TQFP, Ind Temp, Green 5 V T&r; Manufacturer: Microchip; Manufacturer Part Number: ATMEGA328PB-AUR; Number of A/D Converters: 1NUMBER; Number of ADC Channels: 8NUMBER; Number of I2C Channels: 2NUMBER; Number of PWM Channels: 10NUMBER; Supplier 1: Newark; RoHS: No; Category: Microcontrollers; Number of SPI Channels: 2NUMBER; Number of UART Channels: 2NUMBER; Height: 1.2mm
footprint ATMEGA328PB-AU
pins: 1 PD3, 2 PD4, 3 PE0, 4 VCC, 5 GND, 6 PE1, 7 PB6/XTAL1, 8 PB7/XTAL2, 9 PD5, 10 PD6, 11 PD7, 12 PB0, 13 PB1, 14 PB2, 15 PB3, 16 PB4, 17 PB5, 18 AVCC, 19 PE2, 20 AREF, 21 GND, 22 PE3, 23 PC0, 24 PC1, 25 PC2, 26 PC3, 27 PC4, 28 PC5, 29 PC6/RESET, 30 PD0, 31 PD1, 32 PD2

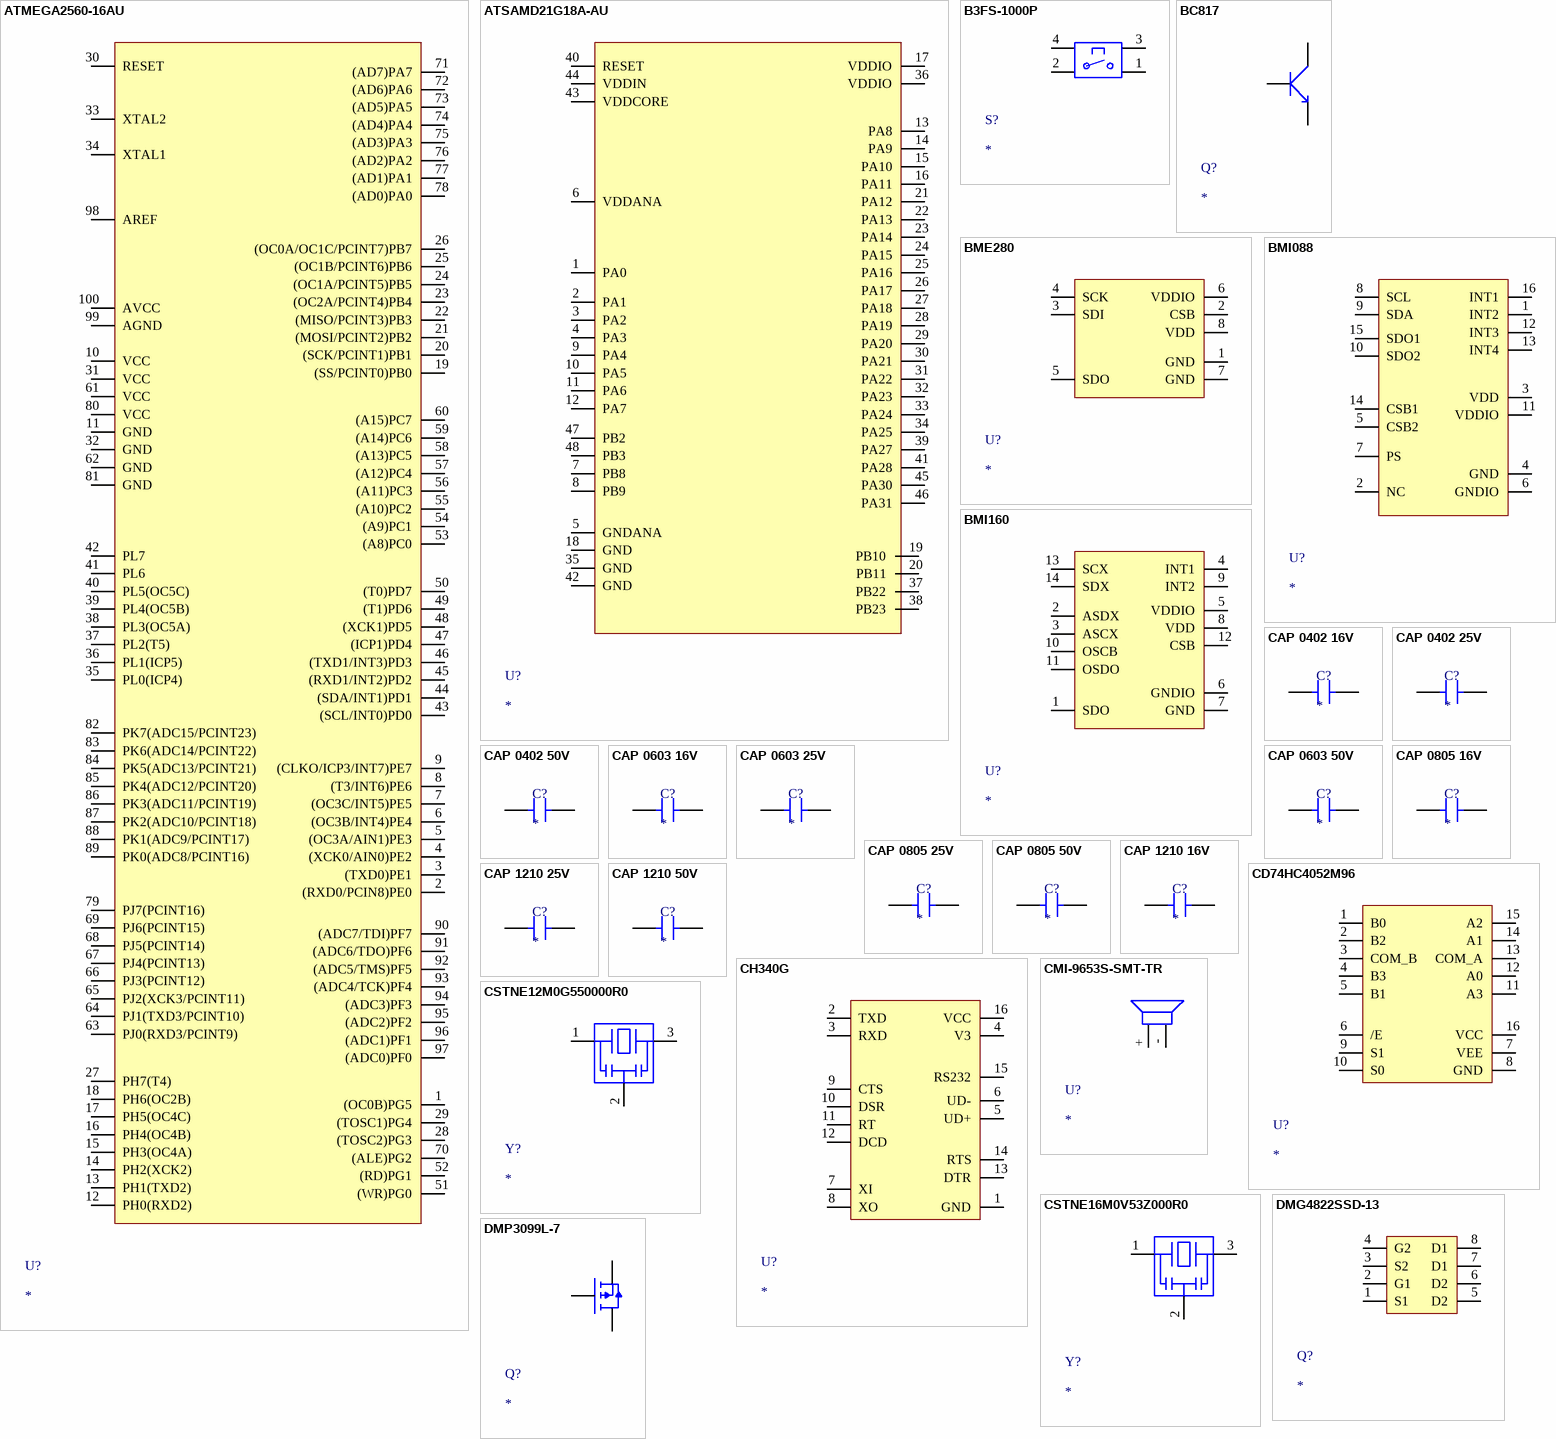
[diagram p1: symbols ATMEGA2560-16AU to DMP3099L-7]

## ATMEGA2560-16AU
designator U?
ATmega Series 256 kB Flash 8 kB SRAM 16 MHz 8-Bit Microcontroller - TQFP-100; Manufacturer: Microchip; Manufacturer Part Number: ATMEGA2560-16AU; Supplier 1: Arrow Electronics; RoHS: Yes; Stock 1: 1; Pricing 1: 1=26,76 (USD); ComponentLink1URL: https://datasheet.ciiva.com/15122/getdatasheetpartid-134542-15122545.pdf?src-supplier=Verical; ComponentLink1Description: https://datasheet.ciiva.com/15122/getdatasheetpartid-134542-15122545.pdf?src-supplier=Verical; ComponentLink2URL: https://datasheet.ciiva.com/22651/1698622-22651116.pdf?src-supplier=Farnell; ComponentLink2Description: https://datasheet.ciiva.com/22651/1698622-22651116.pdf?src-supplier=Farnell; ComponentLink3URL: https://datasheet.ciiva.com/29119/154804-da-01-en-atmega2560-16au-tqfp-100-29119580.pdf?src-supplier=Conrad; ComponentLink3Description: https://datasheet.ciiva.com/29119/154804-da-01-en-atmega2560-16au-tqfp-100-29119580.pdf?src-supplier=Conrad; ComponentLink4URL: https://datasheet.ciiva.com/1157/1817551-1157521.pdf?src-supplier=Element14; ComponentLink4Description: https://datasheet.ciiva.com/1157/1817551-1157521.pdf?src-supplier=Element14; ComponentLink5URL: https://datasheet.ciiva.com/6640/atmel-2549-8-bit-avr-microcontroller-atmega640-1280-1281-2560-2561-summary-6640293.pdf?src-supplier=Digi-Key; ComponentLink5Description: https://datasheet.ciiva.com/6640/atmel-2549-8-bit-avr-microcontroller-atmega640-1280-1281-2560-2561-summary-6640293.pdf?src-supplier=Digi-Key; ComponentLink6URL: https://datasheet.ciiva.com/1162/33246-1162139.pdf?src-supplier=Farnell; ComponentLink6Description: https://datasheet.ciiva.com/1162/33246-1162139.pdf?src-supplier=Farnell; ComponentLink7URL: https://datasheet.ciiva.com/16936/70123980-16936268.pdf?src-supplier=Allied+Electronics; ComponentLink7Description: https://datasheet.ciiva.com/16936/70123980-16936268.pdf?src-supplier=Allied+Electronics
footprint ATMEGA2560-16AU
pins: 1 (OC0B)PG5, 2 (RXD0/PCIN8)PE0, 3 (TXD0)PE1, 4 (XCK0/AIN0)PE2, 5 (OC3A/AIN1)PE3, 6 (OC3B/INT4)PE4, 7 (OC3C/INT5)PE5, 8 (T3/INT6)PE6, 9 (CLKO/ICP3/INT7)PE7, 10 VCC, 11 GND, 12 PH0(RXD2), 13 PH1(TXD2), 14 PH2(XCK2), 15 PH3(OC4A), 16 PH4(OC4B), 17 PH5(OC4C), 18 PH6(OC2B), 19 (SS/PCINT0)PB0, 20 (SCK/PCINT1)PB1, 21 (MOSI/PCINT2)PB2, 22 (MISO/PCINT3)PB3, 23 (OC2A/PCINT4)PB4, 24 (OC1A/PCINT5)PB5, 25 (OC1B/PCINT6)PB6, 26 (OC0A/OC1C/PCINT7)PB7, 27 PH7(T4), 28 (TOSC2)PG3, 29 (TOSC1)PG4, 30 RESET, 31 VCC, 32 GND, 33 XTAL2, 34 XTAL1, 35 PL0(ICP4), 36 PL1(ICP5), 37 PL2(T5), 38 PL3(OC5A), 39 PL4(OC5B), 40 PL5(OC5C), 41 PL6, 42 PL7, 43 (SCL/INT0)PD0, 44 (SDA/INT1)PD1, 45 (RXD1/INT2)PD2, 46 (TXD1/INT3)PD3, 47 (ICP1)PD4, 48 (XCK1)PD5, 49 (T1)PD6, 50 (T0)PD7, 51 (WR)PG0, 52 (RD)PG1, 53 (A8)PC0, 54 (A9)PC1, 55 (A10)PC2, 56 (A11)PC3, 57 (A12)PC4, 58 (A13)PC5, 59 (A14)PC6, 60 (A15)PC7, 61 VCC, 62 GND, 63 PJ0(RXD3/PCINT9), 64 PJ1(TXD3/PCINT10), 65 PJ2(XCK3/PCINT11), 66 PJ3(PCINT12), 67 PJ4(PCINT13), 68 PJ5(PCINT14), 69 PJ6(PCINT15), 70 (ALE)PG2, 71 (AD7)PA7, 72 (AD6)PA6, 73 (AD5)PA5, 74 (AD4)PA4, 75 (AD3)PA3, 76 (AD2)PA2, 77 (AD1)PA1, 78 (AD0)PA0, 79 PJ7(PCINT16), 80 VCC, 81 GND, 82 PK7(ADC15/PCINT23), 83 PK6(ADC14/PCINT22), 84 PK5(ADC13/PCINT21), 85 PK4(ADC12/PCINT20), 86 PK3(ADC11/PCINT19), 87 PK2(ADC10/PCINT18), 88 PK1(ADC9/PCINT17), 89 PK0(ADC8/PCINT16), 90 (ADC7/TDI)PF7, 91 (ADC6/TDO)PF6, 92 (ADC5/TMS)PF5, 93 (ADC4/TCK)PF4, 94 (ADC3)PF3, 95 (ADC2)PF2, 96 (ADC1)PF1, 97 (ADC0)PF0, 98 AREF, 99 AGND, 100 AVCC

## ATSAMD21G18A-AU
designator U?
CORTEX-M0+, 256KB Flash, 32KB SRAM, Usb, Dma, T&r - 48TQFP Ind Temp, Green, 1.6-3.6V, 48MHZ; Manufacturer: Microchip; Manufacturer Part Number: ATSAMD21G18A-AU; Supplier 1: Farnell; RoHS: Yes; Stock 1: 9312; Pricing 1: 1=3,74, 25=3,39, 100=3,19, 250=2,98 (EUR); ComponentLink1URL: https://datasheet.ciiva.com/46427/1807566-46427631.pdf?src-supplier=Element14; ComponentLink1Description: https://datasheet.ciiva.com/46427/1807566-46427631.pdf?src-supplier=Element14
footprint ATSAMD21G18A-AU
pins: 1 PA0, 2 PA1, 3 PA2, 4 PA3, 5 GNDANA, 6 VDDANA, 7 PB8, 8 PB9, 9 PA4, 10 PA5, 11 PA6, 12 PA7, 13 PA8, 14 PA9, 15 PA10, 16 PA11, 17 VDDIO, 18 GND, 19 PB10, 20 PB11, 21 PA12, 22 PA13, 23 PA14, 24 PA15, 25 PA16, 26 PA17, 27 PA18, 28 PA19, 29 PA20, 30 PA21, 31 PA22, 32 PA23, 33 PA24, 34 PA25, 35 GND, 36 VDDIO, 37 PB22, 38 PB23, 39 PA27, 40 RESET, 41 PA28, 42 GND, 43 VDDCORE, 44 VDDIN, 45 PA30, 46 PA31, 47 PB2, 48 PB3

## B3FS-1000P
designator S?
Switch Tactile N.O. SPST Flat Round Button Gull Wing 0.05A 24VDC 0.98N SMD T/R; Manufacturer: Omron; Manufacturer Part Number: B3FS-1000P; Mechanical Life: 1000000Cycles; Actuator Color: Black; Current Rating: 50mA; Voltage Rating (DC): 24V; Contact Resistance: 100mR; Illumination Type: Non-Illuminated,Illuminated; Number of Poles: 1; Switch Travel: 0.25mm; Switch Function: Off-Mom; Actuator Type: Standard; Actuator Length: 0.5mm; Ratings: IP00; Supplier 1: Sager Electronics; RoHS: Yes; Category: Tactile Switches; Stock 1: 12000; Pricing 1: 3000=0,316, 12000=0,305 (USD); Mount: Surface Mount; Case/Package: SMD/SMT; Contact Plating: Silver; Weight: 0.2g; Contact Material: Silver; Material: Plastic; Min Operating Temperature: -20°C; Max Operating Temperature: 70°C; Package Quantity: 3000; Operating Force: 0.98N; Packaging: Tape and Reel; Contact Current Rating: 50mA; Throw Configuration: SPST; Max Current Rating: 50mA; Max Voltage Rating (DC): 24V; Termination: Gull Wing; Electrical Life: 1000000Cycles; Orientation: Straight; Series: B3FS; Length: 6.3mm; Depth: 8mm; Lead Free: Lead Free; RoHS Compliant: Yes; Reach SVHC Compliant: Unknown; ComponentLink1URL: https://datasheet.ciiva.com/1532/en-b3fs-1532627.pdf?src-supplier=Element14; ComponentLink1Description: https://datasheet.ciiva.com/1532/en-b3fs-1532627.pdf?src-supplier=Element14; ComponentLink2URL: https://datasheet.ciiva.com/16154/en-b3fs-16154936.pdf?src-supplier=Onlinecomponents.com; ComponentLink2Description: https://datasheet.ciiva.com/16154/en-b3fs-16154936.pdf?src-supplier=Onlinecomponents.com; ComponentLink3URL: https://datasheet.ciiva.com/26827/getdatasheetpartid-131603-26827237.pdf?src-supplier=Verical; ComponentLink3Description: https://datasheet.ciiva.com/26827/getdatasheetpartid-131603-26827237.pdf?src-supplier=Verical; ComponentLink4URL: https://datasheet.ciiva.com/30214/b3fs-0714-30214221.pdf?src-supplier=Onlinecomponents.com; ComponentLink4Description: https://datasheet.ciiva.com/30214/b3fs-0714-30214221.pdf?src-supplier=Onlinecomponents.com; ComponentLink5URL: https://datasheet.ciiva.com/2899/en-b3fs-2899745.pdf?src-supplier=Digi-Key; ComponentLink5Description: https://datasheet.ciiva.com/2899/en-b3fs-2899745.pdf?src-supplier=Digi-Key; ComponentLink6URL: https://datasheet.ciiva.com/2899/en-b3fs-2899746.pdf?src-supplier=Digi-Key; ComponentLink6Description: https://datasheet.ciiva.com/2899/en-b3fs-2899746.pdf?src-supplier=Digi-Key; ComponentLink7URL: https://datasheet.ciiva.com/2899/en-b3fs-2899744.pdf?src-supplier=Digi-Key; ComponentLink7Description: https://datasheet.ciiva.com/2899/en-b3fs-2899744.pdf?src-supplier=Digi-Key
footprint B3FS-1000P
pins: 1, 2, 3, 4

## BC817
designator Q?
BC817 Series 45 V 500 mA NPN General Purpose Transistor - SOT-23; Manufacturer: Nexperia; Manufacturer Part Number: BC817-25W,115; Supplier 1: Future Electronics; RoHS: Yes; Category: BJTs; Stock 1: 99000; Pricing 1: 3000=0,0169, 12000=0,0162, 45000=0,0155, 90000=0,0152, 225000=0,0144 (USD); ComponentLink1URL: https://datasheet.octopart.com/BC817-25W%2C115-NXP-datasheet-29749.pdf?src-supplier=Future+Electronics; ComponentLink1Description: https://datasheet.octopart.com/BC817-25W%2C115-NXP-datasheet-29749.pdf?src-supplier=Future+Electronics; ComponentLink2URL: http://www.farnell.com/datasheets/699988.pdf?src-supplier=Newark; ComponentLink2Description: http://www.farnell.com/datasheets/699988.pdf?src-supplier=Newark; ComponentLink3URL: https://datasheet.octopart.com/BC817-25W%2C115-Nexperia-datasheet-155782301.pdf?src-supplier=TME; ComponentLink3Description: https://datasheet.octopart.com/BC817-25W%2C115-Nexperia-datasheet-155782301.pdf?src-supplier=TME; Supplier Part Number 1: 5067352
footprint BC817-25
pins: 1 B, 2 E, 3 C

## BME280
designator U?
SENSOR PRESSURE HUMIDITY TEMP; Manufacturer: Bosch; Manufacturer Part Number: BME280; Sensor Type: Temperature; Output Type: SPI,I2C; Accuracy: 3%; Response Time: 1s; Supplier 1: Future Electronics; RoHS: No; Category: Temperature and Humidity Sensors; Stock 1: 5185; Pricing 1: 1=6,1, 20=5,53, 150=5,14, 1000=4,78, 5000=4,48 (USD); Mount: Surface Mount; Case/Package: LGA; Number of Pins: 8; Min Operating Temperature: -40°C; Max Operating Temperature: 85°C; Packaging: Cut Tape; Lead Free: Lead Free; ComponentLink1URL: https://ae-bst.resource.bosch.com/media/_tech/media/datasheets/BST-BME280-DS002.pdf?src-supplier=Digi-Key; ComponentLink1Description: https://ae-bst.resource.bosch.com/media/_tech/media/datasheets/BST-BME280-DS002.pdf?src-supplier=Digi-Key; ComponentLink2URL: https://ae-bst.resource.bosch.com/media/_tech/media/product_flyer/BME280_Productflyer_BST_20170109.pdf?src-supplier=Mouser; ComponentLink2Description: https://ae-bst.resource.bosch.com/media/_tech/media/product_flyer/BME280_Productflyer_BST_20170109.pdf?src-supplier=Mouser; ComponentLink3URL: https://ae-bst.resource.bosch.com/media/_tech/media/product_flyer/BME280_Productflyer_BST_20170109.pdf?src-supplier=Arrow+Electronics; ComponentLink3Description: https://ae-bst.resource.bosch.com/media/_tech/media/product_flyer/BME280_Productflyer_BST_20170109.pdf?src-supplier=Arrow+Electronics; ComponentLink4URL: https://ae-bst.resource.bosch.com/media/_tech/media/product_flyer/BME280_Productflyer_BST_20170109.pdf?src-supplier=NAC+Semi; ComponentLink4Description: https://ae-bst.resource.bosch.com/media/_tech/media/product_flyer/BME280_Productflyer_BST_20170109.pdf?src-supplier=NAC+Semi
footprint BME280
pins: 1 GND, 2 CSB, 3 SDI, 4 SCK, 5 SDO, 6 VDDIO, 7 GND, 8 VDD

## BMI088
designator U?
BMI088 Series 3.6 V 6 Axis Digital Output Accelerometer Motion Sensor - LGA-16; Manufacturer: Bosch Tools; Supplier 1: Arrow Electronics; Manufacturer Part Number: BMI088; RoHS: No; Category: Inertial Measurement Units (IMUs); Stock 1: 2228; Pricing 1: 1=3,4884, 10=3,3155, 25=3,2816, 50=3,2477, 100=3,2147, 500=3,1828 (USD); ComponentLink1URL: https://ae-bst.resource.bosch.com/media/_tech/media/product_flyer/Bosch_Sensortec_Product_flyer_BMI088.pdf?src-supplier=Digi-Key; ComponentLink1Description: https://ae-bst.resource.bosch.com/media/_tech/media/product_flyer/Bosch_Sensortec_Product_flyer_BMI088.pdf?src-supplier=Digi-Key; ComponentLink2URL: https://ae-bst.resource.bosch.com/media/_tech/media/application_notes/BST-MIS-HS001.pdf?src-supplier=Digi-Key; ComponentLink2Description: https://ae-bst.resource.bosch.com/media/_tech/media/application_notes/BST-MIS-HS001.pdf?src-supplier=Digi-Key
footprint BMI088
pins: 1 INT2, 2 NC, 3 VDD, 4 GND, 5 CSB2, 6 GNDIO, 7 PS, 8 SCL, 9 SDA, 10 SDO2, 11 VDDIO, 12 INT3, 13 INT4, 14 CSB1, 15 SDO1, 16 INT1

## BMI160
designator U?
BMI160 2.5 x 3 mm Tiaxial Accelerometer / Gyroscope Inertial Measurement Unit; Manufacturer: Bosch Tools; Supplier 1: Digikey; Manufacturer Part Number: BMI160; RoHS: No; Category: Inertial Measurement Units (IMUs); ComponentLink1URL: https://ae-bst.resource.bosch.com/media/_tech/media/application_notes/BST-MIS-HS001.pdf?src-supplier=Digikey; ComponentLink1Description: https://ae-bst.resource.bosch.com/media/_tech/media/application_notes/BST-MIS-HS001.pdf?src-supplier=Digikey
footprint BMI160
pins: 1 SDO, 2 ASDX, 3 ASCX, 4 INT1, 5 VDDIO, 6 GNDIO, 7 GND, 8 VDD, 9 INT2, 10 OSCB, 11 OSDO, 12 CSB, 13 SCX, 14 SDX

## CAP 0402 16V
designator C?
Capacitor SMD 0402 16V
footprint CAP 0402
pins: 1, 2

## CAP 0402 25V
designator C?
Capacitor SMD 0402 25V
footprint CAP 0402
pins: 1, 2

## CAP 0402 50V
designator C?
Capacitor SMD 0402 50V
footprint CAP 0402
pins: 1, 2

## CAP 0603 16V
designator C?
Capacitor SMD 0603 16V
footprint CAP 0603
pins: 1, 2

## CAP 0603 25V
designator C?
Capacitor SMD 0603 25V
footprint CAP 0603
pins: 1, 2

## CAP 0603 50V
designator C?
Capacitor SMD 0603 50V
footprint CAP 0603
pins: 1, 2

## CAP 0805 16V
designator C?
Capacitor SMD 0805 16V
footprint CAP 0805
pins: 1, 2

## CAP 0805 25V
designator C?
Capacitor SMD 0805 25V
footprint CAP 0805
pins: 1, 2

## CAP 0805 50V
designator C?
Capacitor SMD 0805 50V
footprint CAP 0805
pins: 1, 2

## CAP 1210 16V
designator C?
Capacitor SMD 1210 25V
footprint CAP 1210
pins: 1, 2

## CAP 1210 25V
designator C?
Capacitor SMD 1210 25V
footprint CAP 1210
pins: 1, 2

## CAP 1210 50V
designator C?
Capacitor SMD 1210 50V
footprint CAP 1210
pins: 1, 2

## CD74HC4052M96
designator U?
Differential Multiplexer, 1 Func, 2 Channel, CMOS, PDSO16; Manufacturer: Texas Instruments; Manufacturer Part Number: CD74HC4052M96; Package Body Material: Plastic; Neg Supply Voltage-Max (Vsup): -6V; Neg Supply Voltage-Min (Vsup): 0V; Neg Supply Voltage-Nom (Vsup): -4.5V; Number of Channels: 4; Channels: 1; Off-state Isolation-Nom: 65dB; On-state Resistance Match-Nom: 5R; On-state Resistance-Max (Ron): 130R; Package Equivalence Code: SOP16,.25; Power Supplies: 2/6,GND/-6V; Signal Current-Max: 25mA; Supply Current-Max (Isup): 320uA; Max Supply Voltage: 6V; Min Supply Voltage: 2V; Nominal Supply Voltage: 4.5V; Switch-off Time-Max: 38ns; Switch-on Time-Max: 46ns; Switching: BREAK-BEFORE-MAKEV; Qualification Status: Not Qualified; Supplier: Mouser; Supplier Part Number: 595-CD74HC4052M96; RoHS: Yes; Category: Decoders and Multiplexers; Stock: 4443; Pricing: 1=0,35, 10=0,239, 50=0,212, 100=0,183, 1000=0,154, 10000=0,135 (USD); Case/Package: SOP; Pins: 16; Package Shape: Rectangular; Terminal Finish: Tin; Min Operating Temperature: -55°C; Max Operating Temperature: 125°C; Throw Configuration: DIFFERENTIAL MULTIPLEXER; JESD-30 Code: R-PDSO-G16; Package Style: SMALL OUTLINEMeter; Surface Mount: Yes; Technology: CMOS; Terminal Form: Gull Wing; Terminal Position: DUAL; JESD-609 Code: e3; Moisture Sensitivity Level: 1; Peak Reflow Temperature (Cel): 260°C; Length: 9.9mm; Width: 3.9mm; Height - Seated (Max): 1.75mm; Terminal Pitch: 1.27mm; Temperature Grade: MILITARY; Reach SVHC Compliant: Yes; RoHS Compliant: Yes; ComponentLink1URL: https://www.ti.com:443/lit/ds/symlink/cd54hc4051.pdf?src-supplier=IHS+Markit; ComponentLink1Description: https://www.ti.com:443/lit/ds/symlink/cd54hc4051.pdf?src-supplier=IHS+Markit; ComponentLink2URL: https://datasheet.ciiva.com/27052/1326627-27052007.pdf?src-supplier=Jameco; ComponentLink2Description: https://datasheet.ciiva.com/27052/1326627-27052007.pdf?src-supplier=Jameco; ComponentLink3URL: https://datasheet.ciiva.com/15127/getdatasheetpartid-296378-15127634.pdf?src-supplier=Verical; ComponentLink3Description: https://datasheet.ciiva.com/15127/getdatasheetpartid-296378-15127634.pdf?src-supplier=Verical; ComponentLink4URL: https://datasheet.ciiva.com/1669/cd74hc4051-1669664.pdf?src-supplier=Digikey; ComponentLink4Description: https://datasheet.ciiva.com/1669/cd74hc4051-1669664.pdf?src-supplier=Digikey; ComponentLink5URL: https://datasheet.ciiva.com/45291/cd74hct4053-45291341.pdf?src-supplier=Avnet; ComponentLink5Description: https://datasheet.ciiva.com/45291/cd74hct4053-45291341.pdf?src-supplier=Avnet; ComponentLink6URL: https://datasheet.ciiva.com/1669/cd74hc4051-1669663.pdf?src-supplier=Digikey; ComponentLink6Description: https://datasheet.ciiva.com/1669/cd74hc4051-1669663.pdf?src-supplier=Digikey; ComponentLink7URL: https://datasheet.ciiva.com/1669/cd74hc4051-1669662.pdf?src-supplier=Digikey; ComponentLink7Description: https://datasheet.ciiva.com/1669/cd74hc4051-1669662.pdf?src-supplier=Digikey; ComponentLink8URL: https://datasheet.ciiva.com/48707/001047747-da-01-en-ic-de-mux-dl-4-cd74hc4052m96-soic-16-tid-48707579.pdf?src-supplier=Conrad; ComponentLink8Description: https://datasheet.ciiva.com/48707/001047747-da-01-en-ic-de-mux-dl-4-cd74hc4052m96-soic-16-tid-48707579.pdf?src-supplier=Conrad
footprint SOIC-16
pins: 1 B0, 2 B2, 3 COM_B, 4 B3, 5 B1, 6 /E, 7 VEE, 8 GND, 9 S1, 10 S0, 11 A3, 12 A0, 13 COM_A, 14 A1, 15 A2, 16 VCC

## CH340G
designator U?
USB Interface Integrated Circuit
footprint CH340G
pins: 1 GND, 2 TXD, 3 RXD, 4 V3, 5 UD+, 6 UD-, 7 XI, 8 XO, 9 CTS, 10 DSR, 11 RT, 12 DCD, 13 DTR, 14 RTS, 15 RS232, 16 VCC